# Altium footprint library FiltrosGyrator_PCB.PcbLib: 3 footprints
Each footprint in its own frame and in the unit in brackets; x right, y up, seen from the top. Pads: shape width x height; smd on the part's side, far side on the other; paste and mask are expansions set on the pad; w line width, h text height; cw(c..) or ccw(c..) is an arc to the next point about the centre after c.
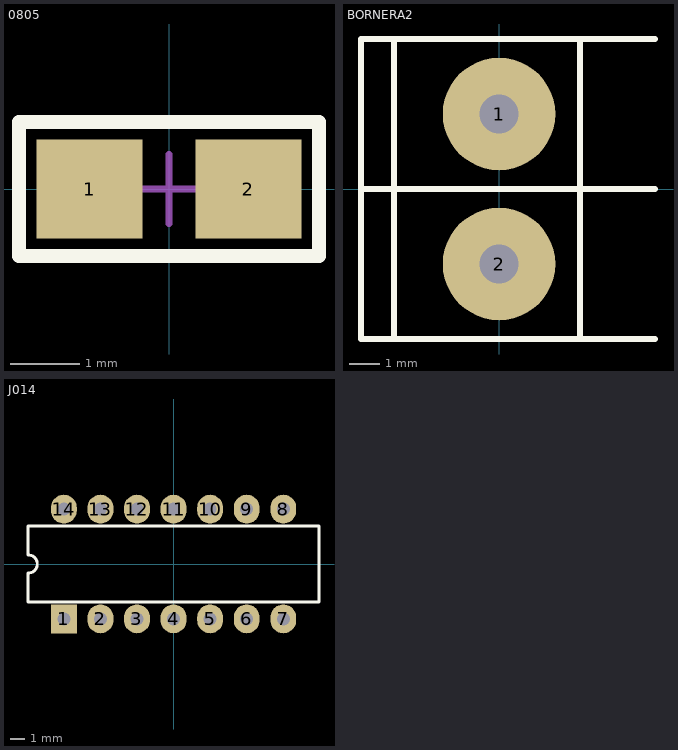
[diagram p0: the footprints below, top view; thin cyan lines are the x and y axes]

## 0805 [mil] "Pasivo 0805"
height 27.56
pads (2):
  rect 60x56 smd: 1(-45,0) 2(45,0)
Top Overlay:
  lines w7.87: -85,-38 85,-38 85,38 -85,38 -85,-38
Mechanical 15:
  lines w3.94: -19.69,0 19.68,0 ; 0,-19.68 0,19.68
3D body "0805.STEP": height 15.35, standoff -0.79, extent -39.5,-24.5 39.24,24.71

## BORNERA2 [mm] "Bornera con Tornillos 5mm separación"
pads (2):
  round 3.75 hole 1.3: 1(0,2.5) 2(0,-2.5)
Top Overlay:
  lines w0.2: -4.6,0 5.2,0 ; -3.5,-5 -3.5,5 ; 2.7,-5 2.7,5 ; 5.2,-5 -4.6,-5 -4.6,5 5.2,5
3D body "BORNERA_2.step": height 10, standoff -2.28, extent -3.763,-4.892 3.937,5.607

## J014 [mm] "DIP; 14 Leads; Row Spacing 7.62 mm; Pitch 2.54 mm"
height 5.08
pads (14):
  rect 1.8x2 hole 0.9: 1(-7.62,-3.81)
  oval 1.8x2 hole 0.9: 2(-5.08,-3.81) 3(-2.54,-3.81) 4(0,-3.81) 5(2.54,-3.81) 6(5.08,-3.81) 7(7.62,-3.81) 8(7.62,3.81) 9(5.08,3.81) 10(2.54,3.81) 11(0,3.81) 12(-2.54,3.81) 13(-5.08,3.81) 14(-7.62,3.81)
Top Overlay:
  lines w0.2: -10.1,-2.65 -10.1,-0.635 ccw(c-10.1,0) -10.1,0.635 -10.1,2.65 10.1,2.65 10.1,-2.65 -10.1,-2.65
3D body "CircuitWorks-DIP-14.step": height 4.01, standoff -2.97, extent -9.525,-4.127 9.525,3.873